# Altium footprint library PCB - IC-Memory - MB85RS4MTPF-G-JNERE2.PcbLib: 1 footprints
Each footprint in its own frame and in the unit in brackets; x right, y up, seen from the top. Pads: shape width x height; smd on the part's side, far side on the other; paste and mask are expansions set on the pad; w line width, h text height; cw(c..) or ccw(c..) is an arc to the next point about the centre after c.
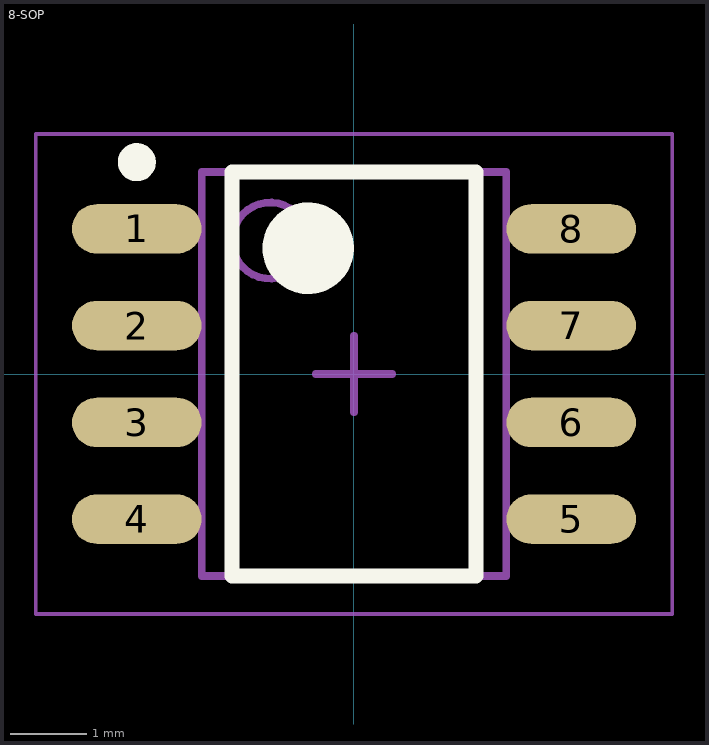
[diagram p0: the footprint, top view; thin cyan lines are the x and y axes]

## 8-SOP [mm]
pads (8):
  oval 1.7x0.65 smd: 1(-2.85,1.905) 2(-2.85,0.635) 3(-2.85,-0.635) 4(-2.85,-1.905) 5(2.85,-1.905) 6(2.85,-0.635) 7(2.85,0.635) 8(2.85,1.905)
Top Overlay:
  circle w0.25: c-2.85,2.78 r0.125
  circle w0.6: c-0.6,1.65 r0.3
  lines w0.2: -1.6,-2.65 -1.6,2.65 1.6,2.65 1.6,-2.65 -1.6,-2.65
Mechanical 2:
  circle w0.1: c-1.1,1.75 r0.5
  lines w0.1: -2,-2.65 -2,2.65 2,2.65 2,-2.65 -2,-2.65
Mechanical 4:
  lines w0.05: -4.175,-3.15 -4.175,3.15 4.175,3.15 4.175,-3.15 -4.175,-3.15
  lines w0.1: -0.5,0 0.5,0 ; 0,-0.5 0,0.5
3D body "MB85RS2MTA.step": height 1.73, standoff 0, extent -3.01,-2.65 3.01,2.65